# Altium footprint library KST_ETD49.PcbLib: 1 footprints
Each footprint in its own frame and in the unit in brackets; x right, y up, seen from the top. Pads: shape width x height; smd on the part's side, far side on the other; paste and mask are expansions set on the pad; w line width, h text height; cw(c..) or ccw(c..) is an arc to the next point about the centre after c.
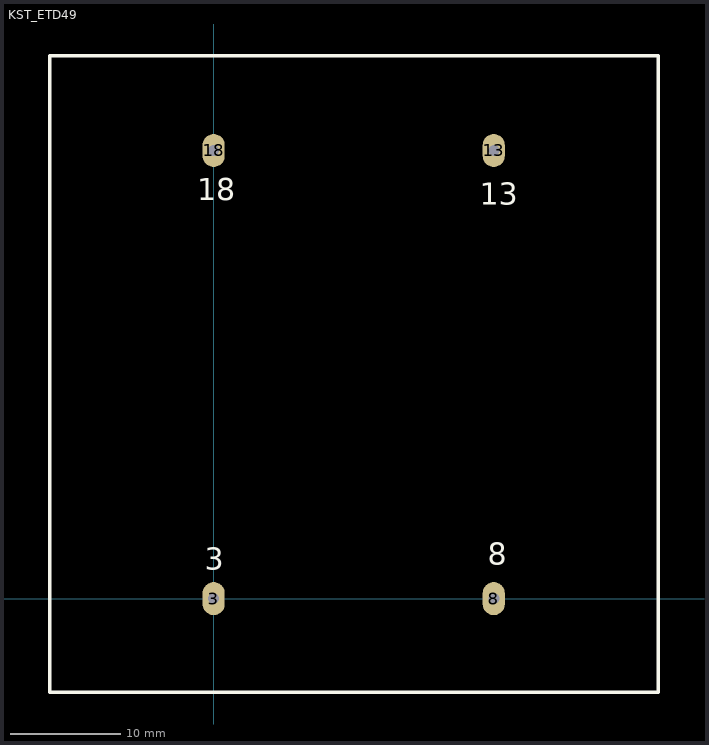
[diagram p0: the footprint, top view; thin cyan lines are the x and y axes]

## KST_ETD49 [mm]
pads (4):
  oval 2x3 hole 1: 3(0,0) 8(25.4,0) 13(25.4,40.64) 18(0,40.64)
Top Overlay:
  lines w0.3: -14.859,-8.484 -14.859,49.225 40.31,49.225 40.31,-8.484 -14.859,-8.484
  text "18" at -1.499,36.144 h2
  text "13" at 24.13,35.738 h2
  text "8" at 24.867,3.073 h2
  text "3" at -0.813,2.616 h2
3D body "KST-ETD49-ERGA.stp": height 40.74, standoff -3.86, extent -14.599,-8.255 40.101,48.945